# Altium schematic symbol library rocket.SchLib: 40 symbols
Pins are listed as number, name and electrical type; pins without a type are passive.

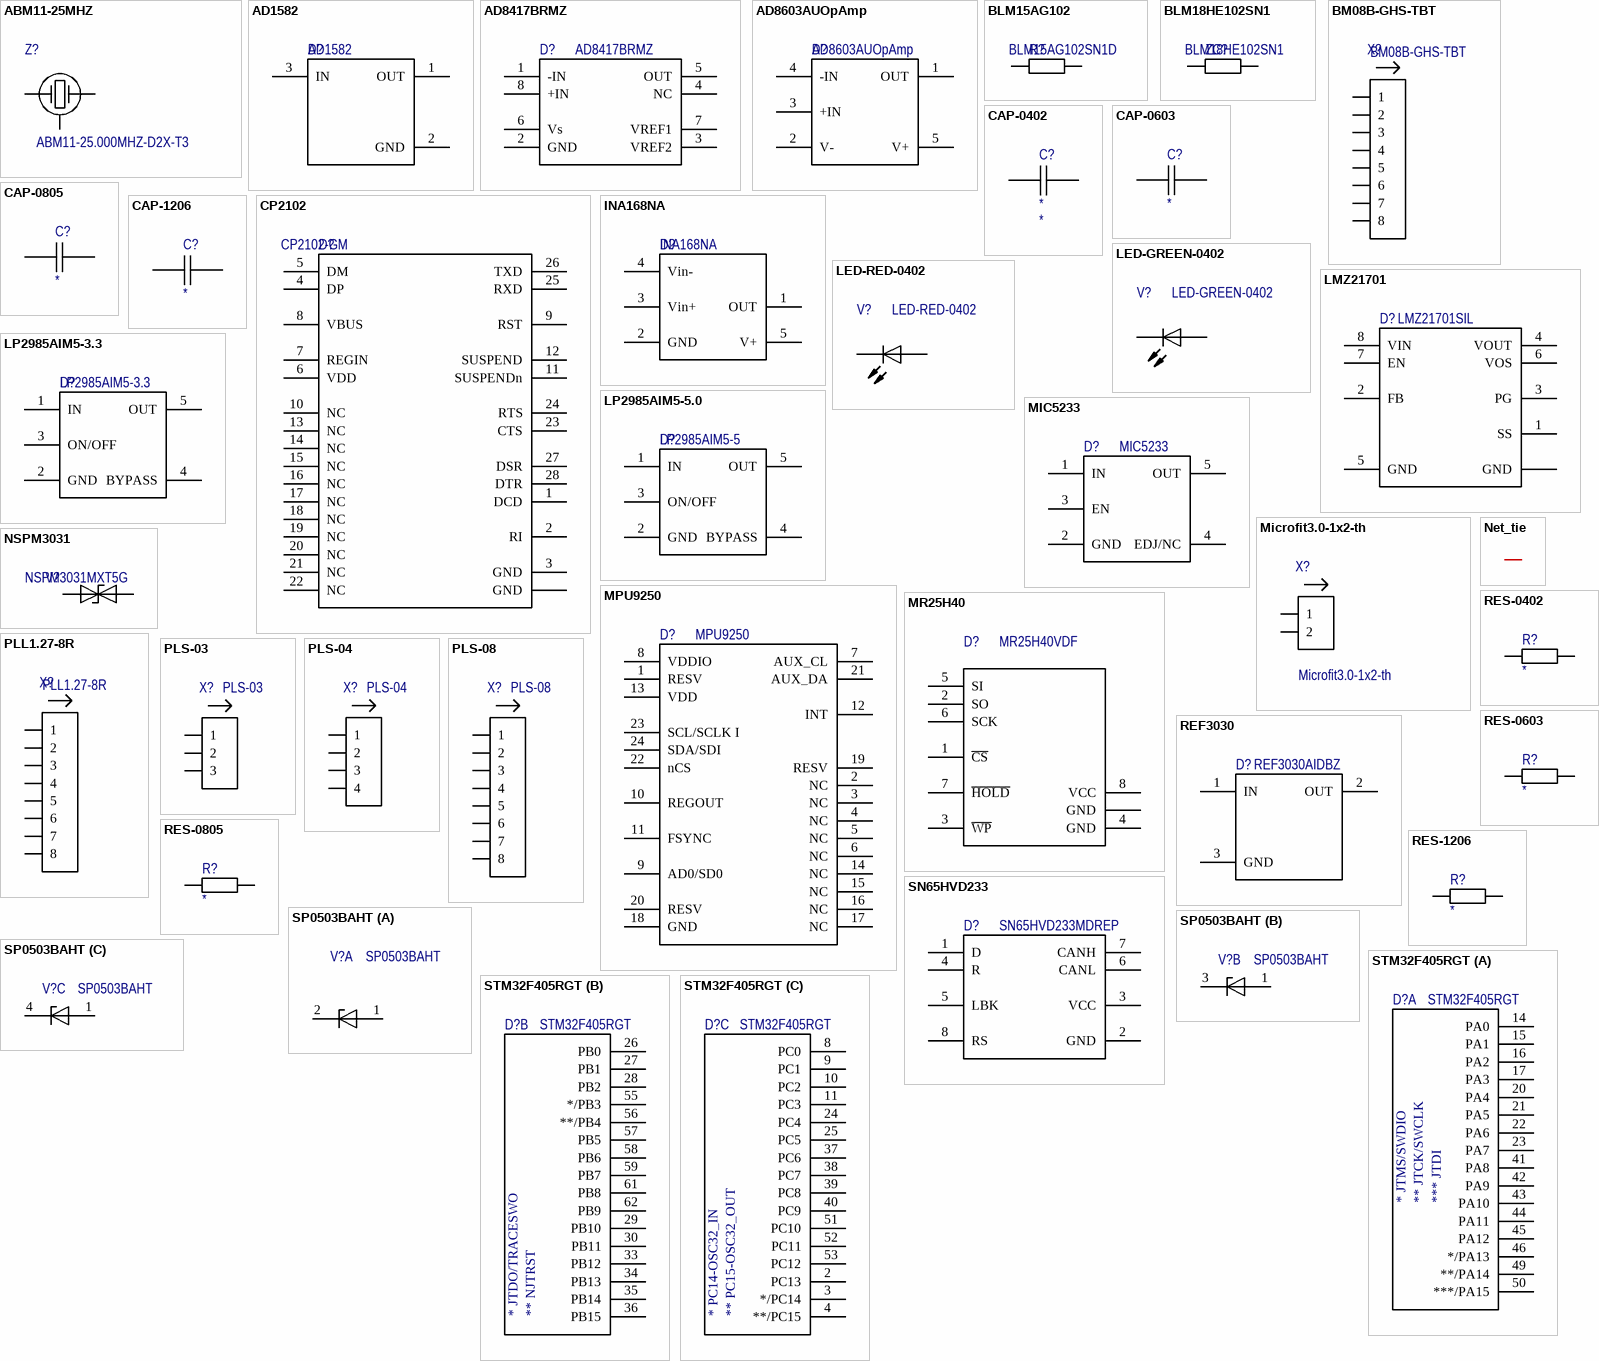
[diagram p0: symbols ABM11-25MHZ to STM32F405RGT]

## ABM11-25MHZ
designator Z?, comment ABM11-25.000MHZ-D2X-T3
Резонатор кварцевый; Value: *; Manufacturer: *; Tolerance: *; Part Number: ABM11-25.000MHZ-D2X-T3
footprint ABM11
pins: 1, 2, 3, 4

## AD1582
designator D?
Интегральная микросхема; Manufacturer: Microchip; Part Number: AD1582
footprint SOT-23-3
pins: 1 OUT, 2 GND, 3 IN

## AD8417BRMZ
designator D?
Интегральная микросхема; Manufacturer: TI; Part Number: AD8417BRMZ
footprint MSOP-8
pins: 1 -IN, 2 GND, 3 VREF2, 4 NC, 5 OUT, 6 Vs, 7 VREF1, 8 +IN

## AD8603AUOpAmp
designator D?
Интегральная микросхема; Manufacturer: Analog Devices; Part Number: AD8603AUOpAmp
footprint SOT-23-5
pins: 1 OUT, 2 V-, 3 +IN, 4 -IN, 5 V+

## BLM15AG102
designator R?, comment BLM15AG102SN1D
Феррит; Manufacturer: *; Part Number: BLM15AG102SN1D
footprint BLM15
pins: 1, 2

## BLM18HE102SN1
designator ZC?
Феррит; Manufacturer: *; Part Number: BLM18HE102SN1
footprint RES-0603
pins: 1, 2

## BM08B-GHS-TBT
designator X?
Manufacturer: *; Part Number: BM08B-GHS-TBT
footprint BM08B-GHS-TBT (BM08B-SRSS-TB)
pins: 1, 2, 3, 4, 5, 6, 7, 8

## CAP-0402
designator C?, comment CAP-*-*%-*V-*-0402  (value not drawn)
Конденсатор; Part Number: *; Manufacturer: *; Temperature: *; Tolerance: *; Value: *; Voltage: *
footprint CAP-0402
pins: 1, 2

## CAP-0603
designator C?, comment CAP-*-*%-*V-*-0603  (value not drawn)
Конденсатор; Part Number: *; Manufacturer: *; Temperature: *; Tolerance: *; Voltage: *; Value: *
footprint CAP-0603
pins: 1, 2

## CAP-0805
designator C?, comment CAP-*-*%-*V-*-0805  (value not drawn)
Конденсатор; Part Number: *; Manufacturer: *; Temperature: *; Tolerance: *; Voltage: *; Value: *
footprint CAP-0805
pins: 1, 2

## CAP-1206
designator C?, comment CAP-*-*%-*V-*-1206  (value not drawn)
Конденсатор; Part Number: *; Manufacturer: *; Temperature: *; Tolerance: *; Voltage: *; Value: *
footprint CAP-1206
pins: 1, 2

## CP2102
designator D?, comment CP2102-GM
Интегральная микросхема; Manufacturer: SiLabs; Part Number: CP2102-GM
footprint QFN-28-5x5
pins: 1 DCD, 2 RI, 3 GND, 4 DP, 5 DM, 6 VDD, 7 REGIN, 8 VBUS, 9 RST, 10 NC, 11 SUSPENDn, 12 SUSPEND, 13 NC, 14 NC, 15 NC, 16 NC, 17 NC, 18 NC, 19 NC, 20 NC, 21 NC, 22 NC, 23 CTS, 24 RTS, 25 RXD, 26 TXD, 27 DSR, 28 DTR, PAD GND

## INA168NA
designator D?
Интегральная микросхема; Manufacturer: TI; Part Number: INA168NA
footprint SOT-23-5
pins: 1 OUT, 2 GND, 3 Vin+, 4 Vin-, 5 V+

## LED-GREEN-0402
designator V?
Диод светоизлучающий; Manufacturer: *; Part Number: LED-GREEN-0402
footprint LED-0402(G)
pins: A, C

## LED-RED-0402
designator V?
Диод светоизлучающий; Manufacturer: *; Part Number: LED-RED-0402
footprint LED-0402(R)
pins: A, C

## LMZ21701
designator D?, comment LMZ21701SIL
Интегральная микросхема; Manufacturer: TI; Part Number: LMZ21701SIL
footprint uSIP_SIL0008E
pins: 1 SS, 2 FB, 3 PG, 4 VOUT, 5 GND, 6 VOS, 7 EN, 8 VIN, PAD GND

## LP2985AIM5-3.3
designator D?
Интегральная микросхема; Manufacturer: Microchip; Part Number: LP2985AIM5-3.3
footprint SOT-23-5
pins: 1 IN, 2 GND, 3 ON/OFF, 4 BYPASS, 5 OUT

## LP2985AIM5-5.0
designator D?, comment LP2985AIM5-5
Интегральная микросхема; Manufacturer: Microchip; Part Number: LP2985AIM5-5
footprint SOT-23-5
pins: 1 IN, 2 GND, 3 ON/OFF, 4 BYPASS, 5 OUT

## MIC5233
designator D?
Интегральная микросхема; Manufacturer: Microchip; Part Number: MIC5233
footprint SOT-23-5
pins: 1 IN, 2 GND, 3 EN, 4 EDJ/NC, 5 OUT

## Microfit3.0-1x2-th
designator X?
Manufacturer: *; Part Number: Microfit3.0-1x2-th
footprint Microfit3.0-1x2-th (Micro-Fit 3.0 Right-Angle Header, 3.00mm Pitch, Single Row, 2 Circuits, with Snap-in Plastic Peg PCB Lock, Tin, Glow-Wire Capable, Black)
pins: 1, 2

## MPU9250
designator D?
Интегральная микросхема; Manufacturer: TI; Part Number: MPU9250
pins: 1 RESV, 2 NC, 3 NC, 4 NC, 5 NC, 6 NC, 7 AUX_CL, 8 VDDIO, 9 AD0/SD0, 10 REGOUT, 11 FSYNC, 12 INT, 13 VDD, 14 NC, 15 NC, 16 NC, 17 NC, 18 GND, 19 RESV, 20 RESV, 21 AUX_DA, 22 nCS, 23 SCL/SCLK I, 24 SDA/SDI

## MR25H40
designator D?, comment MR25H40VDF
Интегральная микросхема, SPI MRAM; Manufacturer: Everspin; Part Number: MR25H40VDF
footprint DFN-8-5x6-SMALL_FLAG - duplicate (Стандатный (5x6x0.90).)
pins: 1 ~{CS}, 2 SO, 3 ~{WP}, 4 GND, 5 SI, 6 SCK, 7 ~{HOLD}, 8 VCC, PAD GND

## Net_tie
designator NT?  (value not drawn)  (net tie, no BOM)
Короткое замыкание
footprint Net_tie
pins: 1, 2

## NSPM3031
designator V?, comment NSPM3031MXT5G
Диод подавления ESD; Manufacturer: *; Tolerance: *; Power: *; Part Number: NSPM3031MXT5G
footprint X2DFN-2
pins: 1, 2

## PLL1.27-8R
designator X?
Manufacturer: *; Part Number: PLL1.27-8R
footprint PLL1.27-8R
pins: 1, 2, 3, 4, 5, 6, 7, 8

## PLS-03
designator X?
Manufacturer: *; Part Number: PLS-03
footprint PLS-04
pins: 1, 2, 3

## PLS-04
designator X?
Manufacturer: *; Part Number: PLS-04
footprint PLS-04
pins: 1, 2, 3, 4

## PLS-08
designator X?
Manufacturer: *; Part Number: PLS-08
footprint PLS-08
pins: 1, 2, 3, 4, 5, 6, 7, 8

## REF3030
designator D?, comment REF3030AIDBZ
Интегральная микросхема; Manufacturer: TI; Part Number: REF3030AIDBZ
footprint SOT-23-3
pins: 1 IN, 2 OUT, 3 GND

## RES-0402
designator R?, comment RES-*-*%-*-0402  (value not drawn)
Резистор; Part Number: *; Manufacturer: *; Tolerance: *; Power: *; Value: *
footprint RES-0402
pins: 1, 2

## RES-0603
designator R?, comment RES-*-*%-*-0603  (value not drawn)
Резистор; Part Number: *; Manufacturer: *; Tolerance: *; Power: *; Value: *
footprint RES-0603
pins: 1, 2

## RES-0805
designator R?, comment RES-*-*%-*-0603  (value not drawn)
Резистор; Part Number: *; Manufacturer: *; Tolerance: *; Power: *; Value: *
footprint RES-0805
pins: 1, 2

## RES-1206
designator R?, comment RES-*-*%-*-0603  (value not drawn)
Резистор; Part Number: *; Manufacturer: *; Tolerance: *; Power: *; Value: *
footprint RES-1206
pins: 1, 2

## SN65HVD233
designator D?, comment SN65HVD233MDREP
Интегральная микросхема; Manufacturer: TI; Part Number: SN65HVD233MDREP
footprint SO-8 (Стандатный (4.9x6x1.75).)
pins: 1 D, 2 GND, 3 VCC, 4 R, 5 LBK, 6 CANL, 7 CANH, 8 RS

## SP0503BAHT
designator V?
Диод лавинный выпрямительный (стабилитрон), 3 в 1; Manufacturer: Littlefuse; Part Number: SP0503BAHT
footprint SOT-143
part A pins: 1, 2
part B pins: 1, 3
part C pins: 1, 4

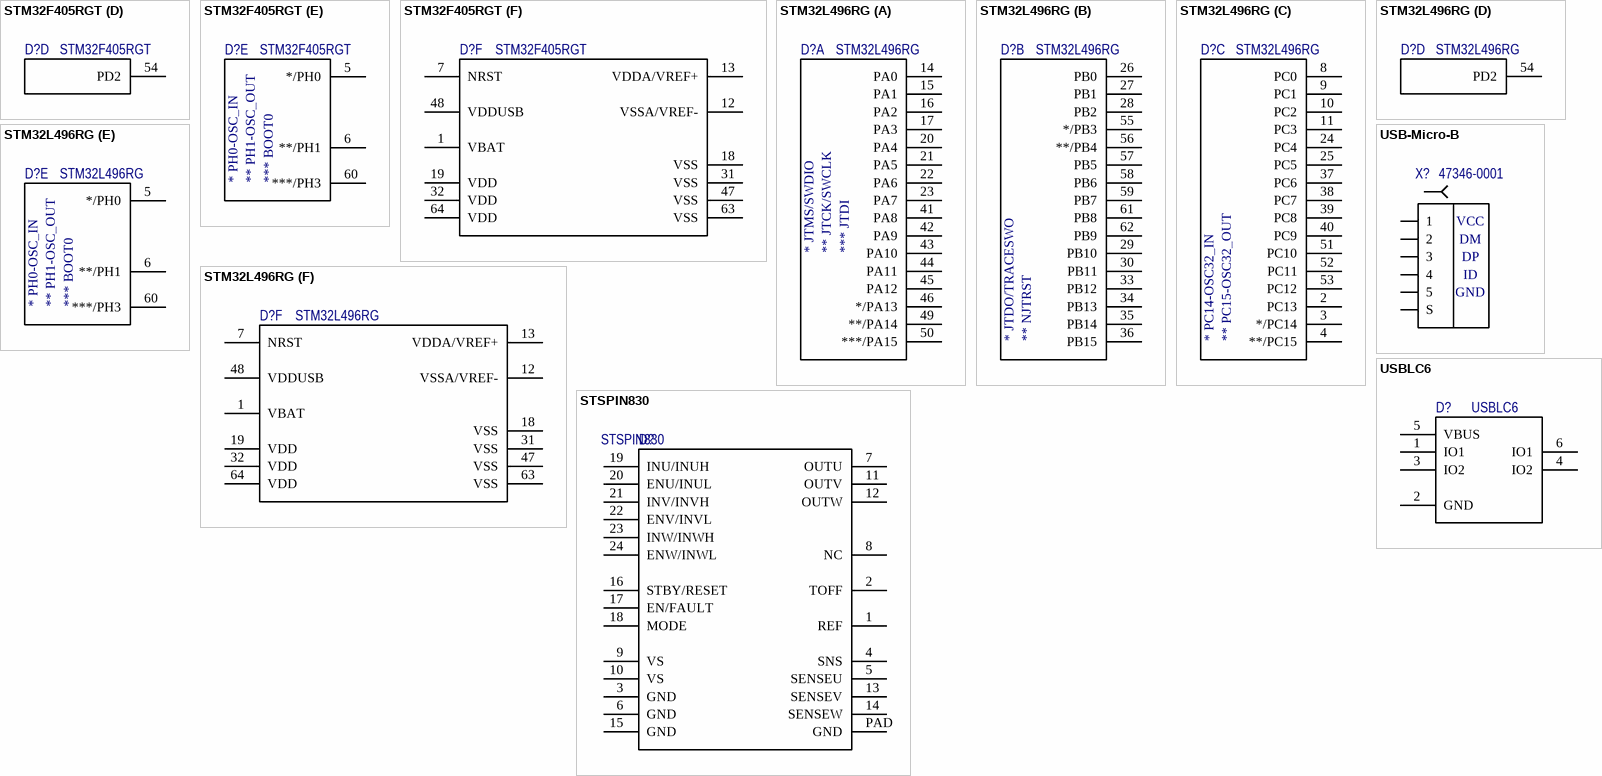
[diagram p1: symbols STM32F405RGT to USBLC6]

## STM32F405RGT
designator D?
Интегральная микросхема; Manufacturer: ST; Part Number: STM32F405RGT
footprint LQFP64
part A pins: 14 PA0, 15 PA1, 16 PA2, 17 PA3, 20 PA4, 21 PA5, 22 PA6, 23 PA7, 41 PA8, 42 PA9, 43 PA10, 44 PA11, 45 PA12, 46 */PA13, 49 **/PA14, 50 ***/PA15
part B pins: 26 PB0, 27 PB1, 28 PB2, 29 PB10, 30 PB11, 33 PB12, 34 PB13, 35 PB14, 36 PB15, 55 */PB3, 56 **/PB4, 57 PB5, 58 PB6, 59 PB7, 61 PB8, 62 PB9
part C pins: 2 PC13, 3 */PC14, 4 **/PC15, 8 PC0, 9 PC1, 10 PC2, 11 PC3, 24 PC4, 25 PC5, 37 PC6, 38 PC7, 39 PC8, 40 PC9, 51 PC10, 52 PC11, 53 PC12
part D pins: 54 PD2
part E pins: 5 */PH0, 6 **/PH1, 60 ***/PH3
part F pins: 1 VBAT, 7 NRST, 12 VSSA/VREF-, 13 VDDA/VREF+, 18 VSS, 19 VDD, 31 VSS, 32 VDD, 47 VSS, 48 VDDUSB, 63 VSS, 64 VDD
part A text: * JTMS/SWDIO; ** JTCK/SWCLK; *** JTDI
part B text: * JTDO/TRACESWO; ** NJTRST
part C text: * PC14-OSC32_IN; ** PC15-OSC32_OUT
part E text: * PH0-OSC_IN; ** PH1-OSC_OUT; *** BOOT0

## STM32L496RG
designator D?
Интегральная микросхема; Manufacturer: ST; Part Number: STM32L496RG
footprint LQFP64
part A pins: 14 PA0, 15 PA1, 16 PA2, 17 PA3, 20 PA4, 21 PA5, 22 PA6, 23 PA7, 41 PA8, 42 PA9, 43 PA10, 44 PA11, 45 PA12, 46 */PA13, 49 **/PA14, 50 ***/PA15
part B pins: 26 PB0, 27 PB1, 28 PB2, 29 PB10, 30 PB11, 33 PB12, 34 PB13, 35 PB14, 36 PB15, 55 */PB3, 56 **/PB4, 57 PB5, 58 PB6, 59 PB7, 61 PB8, 62 PB9
part C pins: 2 PC13, 3 */PC14, 4 **/PC15, 8 PC0, 9 PC1, 10 PC2, 11 PC3, 24 PC4, 25 PC5, 37 PC6, 38 PC7, 39 PC8, 40 PC9, 51 PC10, 52 PC11, 53 PC12
part D pins: 54 PD2
part E pins: 5 */PH0, 6 **/PH1, 60 ***/PH3
part F pins: 1 VBAT, 7 NRST, 12 VSSA/VREF-, 13 VDDA/VREF+, 18 VSS, 19 VDD, 31 VSS, 32 VDD, 47 VSS, 48 VDDUSB, 63 VSS, 64 VDD
part A text: * JTMS/SWDIO; ** JTCK/SWCLK; *** JTDI
part B text: * JTDO/TRACESWO; ** NJTRST
part C text: * PC14-OSC32_IN; ** PC15-OSC32_OUT
part E text: * PH0-OSC_IN; ** PH1-OSC_OUT; *** BOOT0

## STSPIN830
designator D?
Интегральная микросхема; Manufacturer: SiLabs; Part Number: STSPIN830
footprint QFN-24-4X4
pins: 1 REF, 2 TOFF, 3 GND, 4 SNS, 5 SENSEU, 6 GND, 7 OUTU, 8 NC, 9 VS, 10 VS, 11 OUTV, 12 OUTW, 13 SENSEV, 14 SENSEW, 15 GND, 16 STBY/RESET, 17 EN/FAULT, 18 MODE, 19 INU/INUH, 20 ENU/INUL, 21 INV/INVH, 22 ENV/INVL, 23 INW/INWH, 24 ENW/INWL, PAD GND

## USB-Micro-B
designator X?, comment 47346-0001
Manufacturer: Molex; Part Number: 47346-0001
footprint 473460001 (Molex, USB-B micro)
pins: 1, 2, 3, 4, 5, SHIELD S
text: VCC; DM; DP; ID; GND

## USBLC6
designator D?
Интегральная микросхема; Manufacturer: TI; Part Number: USBLC6
footprint SOT-23-6 (Стандатный (5x6x0.90).)
pins: 1 IO1, 2 GND, 3 IO2, 4 IO2, 5 VBUS, 6 IO1